# Altium schematic symbol library Passive.SchLib: 22 symbols
Pins are listed as number, name and electrical type; pins without a type are passive.

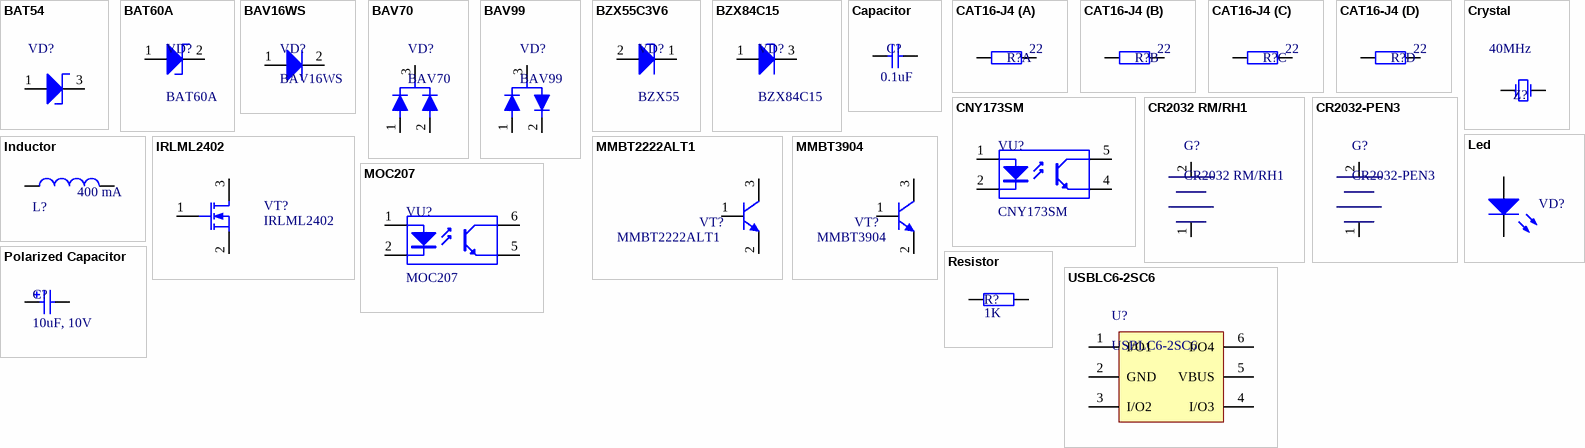
[diagram p0: symbols BAT54 to USBLC6-2SC6]

## BAT54
designator VD?  (value not drawn)
Schottky Diode; Name: Диод BAT54
footprint SOT-23 (TO-236AB) (SOT23, 3-Leads, Body 3,0x2,5mm (max), Pitch 0,95mm, IPC Medium Density)
pins: 1 A, 3 K

## BAT60A
designator VD?
Silicon Schottky Diode; Name: BAT60A
footprint SOD323 (Molded Diode, 2-Leads, Body 1,8x1,3mm, IPC Medium Density)
pins: 1 A, 2 K

## BAV16WS
designator VD?
Fast Switching Diode; Name: Диод BAV16WS
footprint SOD323 (Molded Diode, 2-Leads, Body 1,8x1,3mm, IPC Medium Density)
pins: 1 A, 2 K

## BAV70
designator VD?
Small Signal Diode; Name: BAV70
footprint SOT-23 (TO-236AB) (SOT23, 3-Leads, Body 3,0x2,5mm (max), Pitch 0,95mm, IPC Medium Density)
pins: 1, 2, 3

## BAV99
designator VD?
Small Signal Diode; Name: Диод BAV99
footprint SOT-23 (TO-236AB) (SOT23, 3-Leads, Body 3,0x2,5mm (max), Pitch 0,95mm, IPC Medium Density)
pins: 1, 2, 3

## BZX55C3V6
designator VD?, comment BZX55
Silicon Planar Power Zener Diode; Name: BZX55C3V6
footprint DO-35
pins: 1 K, 2 A

## BZX84C15
designator VD?
Silicon Planar Zener Diode; Name: BZX84C15
footprint SOT-23 (TO-236AB) (SOT23, 3-Leads, Body 3,0x2,5mm (max), Pitch 0,95mm, IPC Medium Density)
pins: 1 A, 3 K

## Capacitor
designator C?  value 0.1uF  (hidden comment: Capacitor)
Name: Конденсатор керамический SMD
footprint 0603(CAPC1608X09N) (Chip Capacitor, 2-Leads, Body 1,6x0,8mm, IPC Medium Density)
footprint 1206(CAPC3216X15N) (Chip Capacitor, 2-Leads, Body 3,2x1,6mm, IPC Medium Density)
pins: 1, 2

## CAT16-J4
designator R?  value 22  (hidden comment: CAT16-J4)
Chip Resistor Arrays; Name: Резисторная сборка SMD CAT16-220J4LF
footprint CAT16-4F(RESCAV80P160X320X60-8N) (SOIC, 8-Leads, Body 3,4x0,8mm (max), Pitch 1,27mm, IPC Medium Density)
part A pins: 1, 8
part B pins: 2, 7
part C pins: 3, 6
part D pins: 4, 5

## CNY173SM
designator VU?
6-Pin Phototransistor Optocoupler; Name: CNY173SM
footprint SMD6 (SOP, 6-Leads, Body 8,9x6,9mm (max), Pitch 2,54mm, IPC Medium Density)
pins: 1 A "Anode", 2 K "Cathode", 4 E "Emitter", 5 C "Collector"

## CR2032 RM/RH1
designator G?
Name: CR2032 RM/RH1
footprint CR2032-VAY3
pins: 1, 2

## CR2032-PEN3
designator G?
Name: CR2032-PEN3
footprint CR2032-PEN3
pins: 1, 2

## Crystal
designator Z?, comment value 40MHz  (hidden comment: Crystal Oscillator)
Name: Кварцевый резонатор
footprint HC49S
footprint KX–327NHT (Quartz)
pins: 1 OSC1, 2 OSC2

## Inductor
designator L?  value 400 mA  (hidden comment: Inductor)
Name: Индуктивность SMD; Model: *
footprint 0805(INDC2012X0N) (Chip Inductor, 2-Leads, Body 2,1x1,3mm, IPC Medium Density)
footprint LPS3015
footprint 0806 (2016)
pins: 1, 2

## IRLML2402
designator VT?
Name: IRLML2402
footprint SOT-23 (TO-236AB) (SOT23, 3-Leads, Body 3,0x2,5mm (max), Pitch 0,95mm, IPC Medium Density)
pins: 1 G, 2 S, 3 D

## Led
designator VD?  (value not drawn)
Светодиод; Name: Светодиод 1206 зеленый
footprint 1206LEDGR (Chip Capacitor, 2-Leads, Body 3,2x1,6mm, IPC Medium Density)
footprint GNL-3014xx
pins: 1 A, 2 K

## MMBT2222ALT1
designator VT?
NPN General Purpose Amplifier; Name: MMBT2222ALT1
footprint SOT-23 (TO-236AB) (SOT23, 3-Leads, Body 3,0x2,5mm (max), Pitch 0,95mm, IPC Medium Density)
pins: 1 B, 2 E, 3 C

## MMBT3904
designator VT?
NPN General Purpose Amplifier; Name: MMBT3904
footprint SOT-23 (TO-236AB) (SOT23, 3-Leads, Body 3,0x2,5mm (max), Pitch 0,95mm, IPC Medium Density)
pins: 1 B, 2 E, 3 C

## MOC207
designator VU?
8-Pin Phototransistor Optocoupler; Name: MOC207
footprint SOIC-8 (SOIC, 8-Leads, Body 5,0x4,0mm (max), Pitch 1,27mm, IPC Medium Density)
pins: 1 A "Anode", 2 K "Cathode", 5 E "Emitter", 6 C "Collector"

## Polarized Capacitor
designator C?, comment value 10uF, 10V  (hidden comment: Capacitor Polarized)
Polarized Capacitor; Name: Конденсатор электролитический танталовый SMD
footprint 1206(typeA)
pins: 1, 2
1 alternate drawing of the same symbol

## Resistor
designator R?  value 1K  (hidden comment: Resistor)
Name: Резистор SMD
footprint 0603(RESC1608X05N) (Chip Resistor, 2-Leads, Body 1,6x0,8mm, IPC Medium Density)
pins: 1, 2

## USBLC6-2SC6
designator U?
ESD protection; Name: USBLC6-2SC6
footprint SOT23-6L (SOT23, 6-Leads, Body 3,0x3,0mm (max), Pitch 0,95mm, IPC Medium Density)
pins: 1 I/O1, 2 GND (power), 3 I/O2, 4 I/O3, 5 VBUS (power), 6 I/O4